# EAGLE library part ATTINY45_TSSOP8 (library PR_Parts_Library)
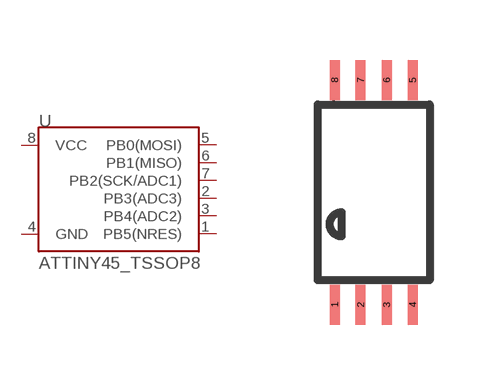
[diagram p10: symbol with the pads of TSSOP-8; footprint TSSOP-8]

Designator prefix -

## ATTINY45_TSSOP8  [TSSOP-8]
1  PB5(NRES)
2  PB3(ADC3)
3  PB4(ADC2)
4  GND
5  PB0(MOSI)
6  PB1(MISO)
7  PB2(SCK/ADC1)
8  VCC

## Footprint TSSOP-8 (pad centres in mm)
smd 0.25 x 1: 1 -0.975,-2.813; 2 -0.325,-2.813; 3 0.325,-2.813; 4 0.975,-2.813; 5 0.975,2.813; 6 0.325,2.813; 7 -0.325,2.813; 8 -0.975,2.813